# EAGLE library part TMP102 (library kanflo)
TMP102 Texas Instruments TMP102 Low-Power Digital Temperature Sensor With SMBus and Two-Wire Serial Interface in SOT563.
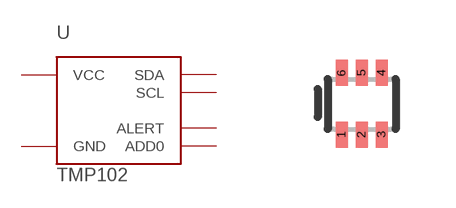
[diagram p10: symbol with the pads of SOT563; footprint SOT563]

Designator prefix U

## TMP102SOT563-6  [SOT563]
1  SCL
2  GND  pwr
3  ALERT  out
4  ADD0  in
5  VCC  pwr
6  SDA

## Footprint SOT563 (pad centres in mm)
smd 0.3 x 0.65: 1 -0.5,0.06; 2 0,0.06; 3 0.5,0.06; 4 0.5,1.6; 5 0,1.6; 6 -0.5,1.6